# Altium schematic symbol library GD25Q32CTIGR.SchLib: 1 symbol
Pins are listed as number, name and electrical type; pins without a type are passive.

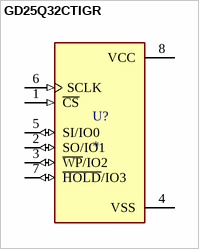
[diagram p0: symbol GD25Q32CTIGR]

## GD25Q32CTIGR
designator U?
NOR FLASH; MF: {'manufacturer': u'GigaDevice Semiconductor (HK) Limited'}; MP: GD25Q32CTIGR; Package: None; Availability: Unavailable; Value: *; Price: None
footprint SOIC127P600X175-8N
pins: 1 ~{CS} (in), 2 SO/IO1 (io), 3 ~{WP}/IO2 (io), 4 VSS (power), 5 SI/IO0 (io), 6 SCLK (in), 7 ~{HOLD}/IO3 (io), 8 VCC (power)